# Altium integrated library Maxim Digital Potentiometers.IntLib: 1045 symbols (part 19 of 42)
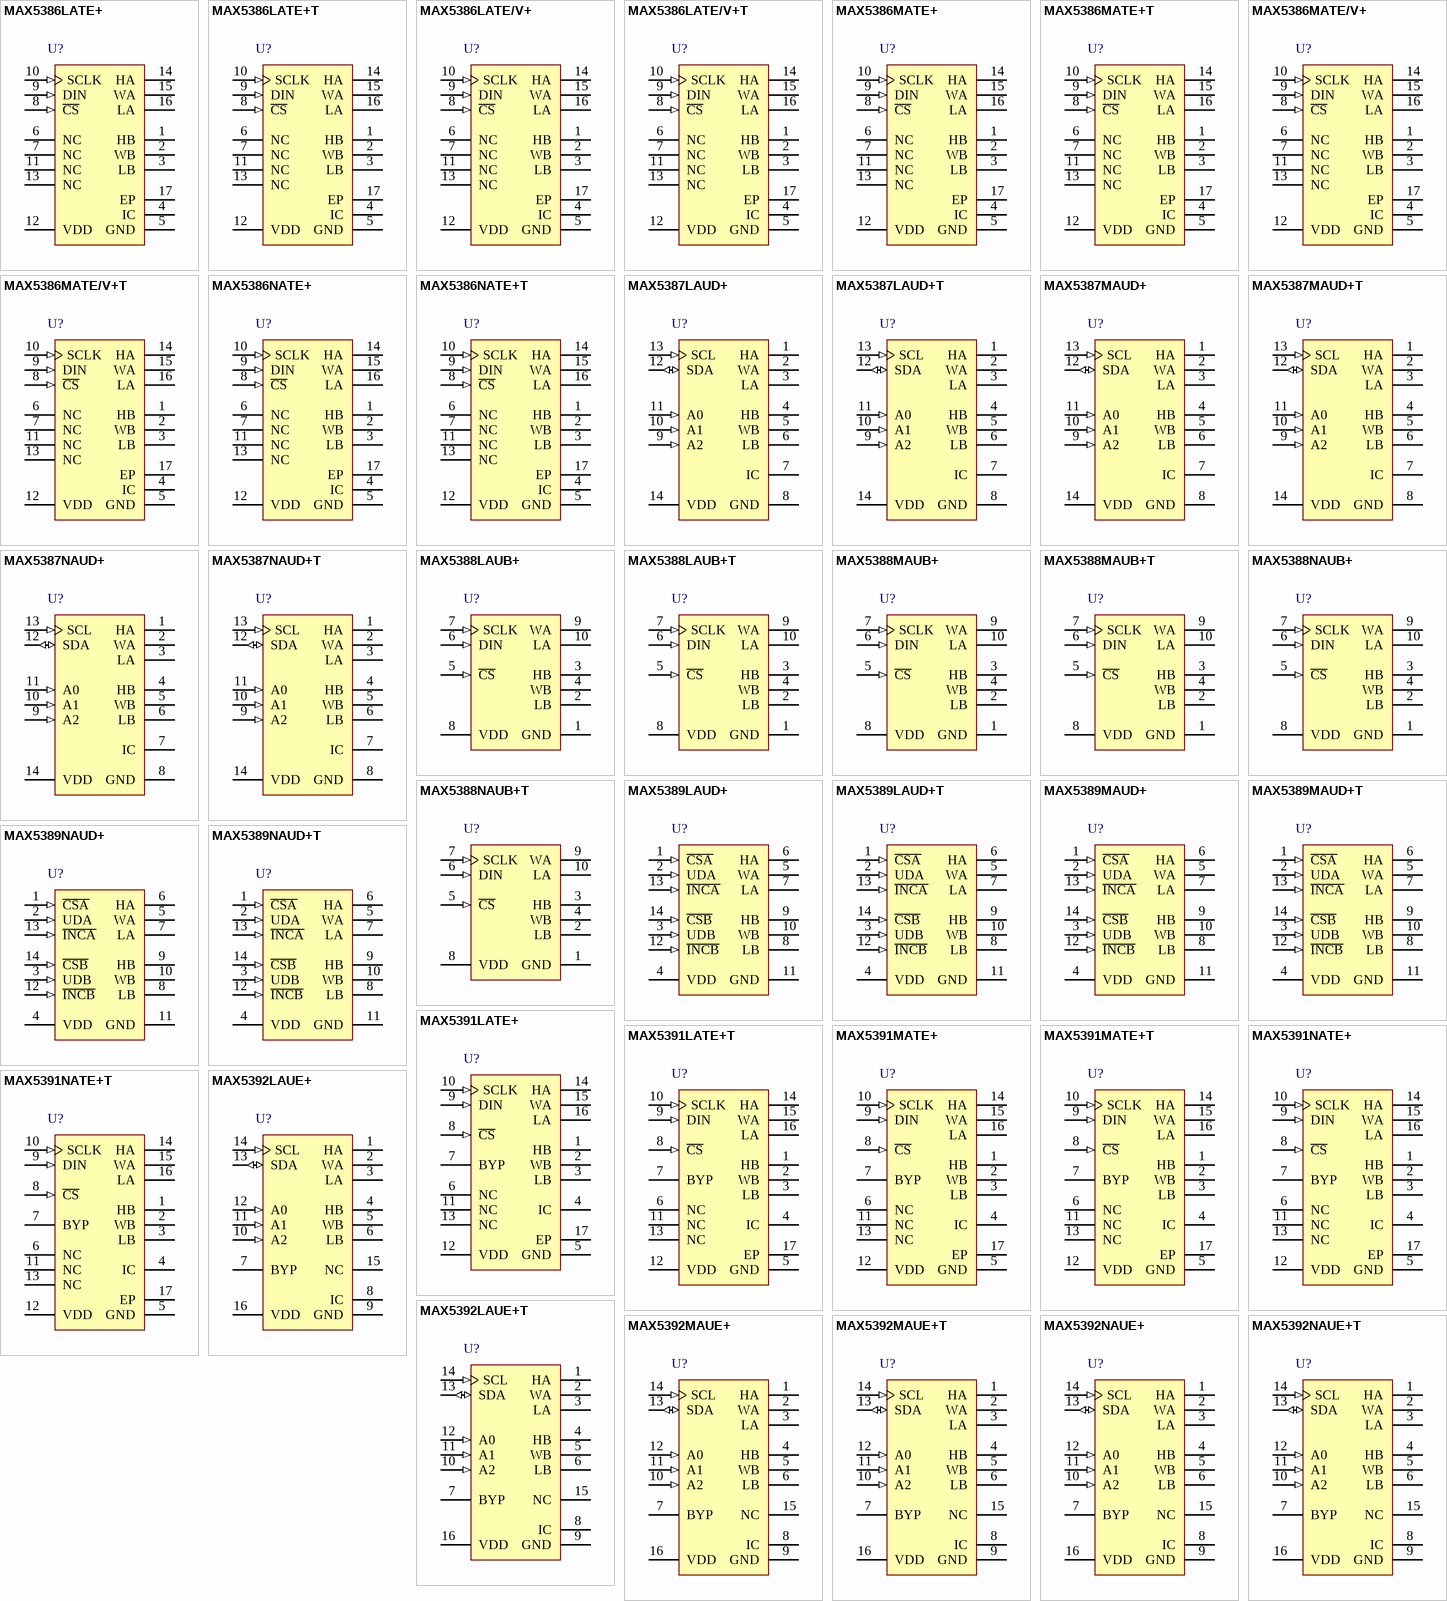
[diagram p47: symbols MAX5386LATE+ to MAX5392NAUE+T]

## MAX5386NATE+
designator U?
Dual Low-Voltage Digital Potentiometer with 3-Wire Serial SPI Control Interface, Volatile, Linear Taper, 256 Steps, -40 to 125 degC, 16-pin TQFN (T1633+5), Pb-Free; PartNumber: MAX5386NATE+; Industry Qualified: Automotive - AECQ100, Automotive - General; DatasheetVersion: Rev. 2; PackageVersion: Rev. L, 04/2012; PackageReference: T1633+5; PackageDescription: 16-Pin Thin Quad Flatpack, No Leads (T1633+5), Body 3 x 3 mm, Pitch 0.5 mm; Supplier 1: Digi-Key; Supplier Part Number 1: MAX5386NATE+-ND; Supplier 2: Mouser; Supplier Part Number 2: 700-MAX5386NATE; Applications: Low-Voltage Battery Applications, Portable Consumer; Control Interface: 3-Wire Serial SPI; Features: Ultra Low Power Consumption; Mounting Technology: Surface Mount; Code_JEDEC: MO220; ComponentLink1Description: Manufacturer URL; ComponentLink1URL: http://www.maximintegrated.com/; ComponentLink2Description: Datasheet; ComponentLink2URL: http://datasheets.maximintegrated.com/en/ds/MAX5386-MAX5388.pdf; ComponentLink3Description: Package Specification; ComponentLink3URL: http://pdfserv.maximintegrated.com/package_dwgs/21-0136.PDF
footprint MAXM-T1633+5_N (QFN, 16-Leads, Body 3x3mm, Pitch 0.5mm, Thermal Pad 1.1x1.1mm, IPC Medium Density)
footprint MAXM-T1633+5_L (QFN, 16-Leads, Body 3x3mm, Pitch 0.5mm, Thermal Pad 1.1x1.1mm, IPC High Density)
footprint MAXM-T1633+5_M (QFN, 16-Leads, Body 3x3mm, Pitch 0.5mm, Thermal Pad 1.1x1.1mm, IPC Low Density)
pins: 1 HB "Resistor B High Terminal. The voltage at HB can be higher or lower than the voltage at LB. Current can flow in to or out of HB.", 2 WB "Resistor B Wiper Terminal", 3 LB "Resistor B Low Terminal. The voltage at LB can be higher or lower than the voltage at HB. Current can flow in to or out of LB.", 4 IC (power) "Internally Connected. Connect to GND.", 5 GND (power) "Ground. Both pins must be grounded.", 6 NC "No Connection. Not internally connected.", 7 NC "No Connection. Not internally connected.", 8 ~{CS} (in) "Active-Low Chip-Select Input", 9 DIN (in) "Serial-Interface Data Input", 10 SCLK (in) "Serial-Interface Clock Input", 11 NC "No Connection. Not internally connected.", 12 VDD (power) "Power-Supply Input. Bypass VDD to GND with a 0.1uF capacitor close to the device.", 13 NC "No Connection. Not internally connected.", 14 HA "Resistor A High Terminal. The voltage at HA can be higher or lower than the voltage at LA. Current can flow in to or out of HA.", 15 WA "Resistor A Wiper Terminal", 16 LA "Resistor A Low Terminal. The voltage at LA can be higher or lower than the voltage at HA. Current can flow in to or out of LA.", 17 EP (power) "Exposed Pad (TQFN Only). Internally connected to GND. Connect to ground."

## MAX5386NATE+T
designator U?
Dual Low-Voltage Digital Potentiometer with 3-Wire Serial SPI Control Interface, Volatile, Linear Taper, 256 Steps, -40 to 125 degC, 16-pin TQFN (T1633+5), Pb-Free, Tape and Reel; PartNumber: MAX5386NATE+T; Industry Qualified: Automotive - AECQ100, Automotive - General; DatasheetVersion: Rev. 2; PackageVersion: Rev. L, 04/2012; PackageReference: T1633+5; PackageDescription: 16-Pin Thin Quad Flatpack, No Leads (T1633+5), Body 3 x 3 mm, Pitch 0.5 mm; Supplier 1: Digi-Key; Supplier Part Number 1: MAX5386NATE+T-ND; Supplier 2: Mouser; Supplier Part Number 2: 700-MAX5386NATET; Applications: Low-Voltage Battery Applications, Portable Consumer; Control Interface: 3-Wire Serial SPI; Features: Ultra Low Power Consumption; Mounting Technology: Surface Mount; Code_JEDEC: MO220; ComponentLink1Description: Manufacturer URL; ComponentLink1URL: http://www.maximintegrated.com/; ComponentLink2Description: Datasheet; ComponentLink2URL: http://datasheets.maximintegrated.com/en/ds/MAX5386-MAX5388.pdf; ComponentLink3Description: Package Specification; ComponentLink3URL: http://pdfserv.maximintegrated.com/package_dwgs/21-0136.PDF
footprint MAXM-T1633+5_N (QFN, 16-Leads, Body 3x3mm, Pitch 0.5mm, Thermal Pad 1.1x1.1mm, IPC Medium Density)
footprint MAXM-T1633+5_L (QFN, 16-Leads, Body 3x3mm, Pitch 0.5mm, Thermal Pad 1.1x1.1mm, IPC High Density)
footprint MAXM-T1633+5_M (QFN, 16-Leads, Body 3x3mm, Pitch 0.5mm, Thermal Pad 1.1x1.1mm, IPC Low Density)
pins: 1 HB "Resistor B High Terminal. The voltage at HB can be higher or lower than the voltage at LB. Current can flow in to or out of HB.", 2 WB "Resistor B Wiper Terminal", 3 LB "Resistor B Low Terminal. The voltage at LB can be higher or lower than the voltage at HB. Current can flow in to or out of LB.", 4 IC (power) "Internally Connected. Connect to GND.", 5 GND (power) "Ground. Both pins must be grounded.", 6 NC "No Connection. Not internally connected.", 7 NC "No Connection. Not internally connected.", 8 ~{CS} (in) "Active-Low Chip-Select Input", 9 DIN (in) "Serial-Interface Data Input", 10 SCLK (in) "Serial-Interface Clock Input", 11 NC "No Connection. Not internally connected.", 12 VDD (power) "Power-Supply Input. Bypass VDD to GND with a 0.1uF capacitor close to the device.", 13 NC "No Connection. Not internally connected.", 14 HA "Resistor A High Terminal. The voltage at HA can be higher or lower than the voltage at LA. Current can flow in to or out of HA.", 15 WA "Resistor A Wiper Terminal", 16 LA "Resistor A Low Terminal. The voltage at LA can be higher or lower than the voltage at HA. Current can flow in to or out of LA.", 17 EP (power) "Exposed Pad (TQFN Only). Internally connected to GND. Connect to ground."

## MAX5387LAUD+
designator U?
Dual, Low-Voltage Digital Potentiometer with I2C Control Interface, Volatile, Linear Taper, 256 Steps, -40 to 125 degC, 14-pin TSSOP (U14+1), Pb-Free; PartNumber: MAX5387LAUD+; DatasheetVersion: Rev. 2; PackageVersion: Rev. L, 07/2010; PackageReference: U14+1; PackageDescription: 14-Pin Thin Shrink Small-Outline Package (U14+1), Body 5 x 4.4 mm, Pitch 0.65 mm; Supplier 1: Digi-Key; Supplier Part Number 1: MAX5387LAUD+-ND; Supplier 2: Newark; Supplier Part Number 2: 64R0232; Supplier 3: Mouser; Supplier Part Number 3: 700-MAX5387LAUD+; Applications: Low-Voltage Battery Applications, Portable Consumer; Control Interface: I2C; Mounting Technology: Surface Mount; Code_JEDEC: MO-153; ComponentLink1Description: Manufacturer URL; ComponentLink1URL: http://www.maximintegrated.com/; ComponentLink2Description: Datasheet; ComponentLink2URL: http://datasheets.maximintegrated.com/en/ds/MAX5387.pdf; ComponentLink3Description: Package Specification; ComponentLink3URL: http://pdfserv.maximintegrated.com/package_dwgs/21-0066.PDF
footprint MAXM-U14+1_N (SOP, 14-Leads, Body 5x4.4mm, Pitch 0.65mm, IPC Medium Density)
footprint MAXM-U14+1_L (SOP, 14-Leads, Body 5x4.4mm, Pitch 0.65mm, IPC High Density)
footprint MAXM-U14+1_M (SOP, 14-Leads, Body 5x4.4mm, Pitch 0.65mm, IPC Low Density)
pins: 1 HA "Resistor A High Terminal. The voltage at HA can be higher or lower than the voltage at LA. Current can flow into or out of HA", 2 WA "Resistor A Wiper Terminal", 3 LA "Resistor A Low Terminal. The voltage at LA can be higher or lower than the voltage at HA. Current can flow into or out of LA", 4 HB "Resistor B High Terminal. The voltage at HB can be higher or lower than the voltage at LB. Current can flow into or out of HB", 5 WB "Resistor B Wiper Terminal", 6 LB "Resistor B Low Terminal. The voltage at LB can be higher or lower than the voltage at HB. Current can flow into or out of LB.", 7 IC "Internally Connected. Connect to GND.", 8 GND (power) "Ground", 9 A2 (in) "Address Input 2. Connect to VDD or GND.", 10 A1 (in) "Address Input 1. Connect to VDD or GND.", 11 A0 (in) "Address Input 0. Connect to VDD or GND.", 12 SDA (io) "I2C-Compatible Serial-Data Input/Output. A pullup resistor is required.", 13 SCL (in) "I2C-Compatible Serial-Clock Input. A pullup resistor is required.", 14 VDD (power) "Power-Supply Input. Bypass VDD to GND with a 0.1uF capacitor close to the device."

## MAX5387LAUD+T
designator U?
Dual, Low-Voltage Digital Potentiometer with I2C Control Interface, Volatile, Linear Taper, 256 Steps, -40 to 125 degC, 14-pin TSSOP (U14+1), Pb-Free, Tape and Reel; PartNumber: MAX5387LAUD+T; DatasheetVersion: Rev. 2; PackageVersion: Rev. L, 07/2010; PackageReference: U14+1; PackageDescription: 14-Pin Thin Shrink Small-Outline Package (U14+1), Body 5 x 4.4 mm, Pitch 0.65 mm; Supplier 1: Digi-Key; Supplier Part Number 1: MAX5387LAUD+T-ND; Supplier 2: Mouser; Supplier Part Number 2: 700-MAX5387LAUD+T; Applications: Low-Voltage Battery Applications, Portable Consumer; Control Interface: I2C; Mounting Technology: Surface Mount; Code_JEDEC: MO-153; ComponentLink1Description: Manufacturer URL; ComponentLink1URL: http://www.maximintegrated.com/; ComponentLink2Description: Datasheet; ComponentLink2URL: http://datasheets.maximintegrated.com/en/ds/MAX5387.pdf; ComponentLink3Description: Package Specification; ComponentLink3URL: http://pdfserv.maximintegrated.com/package_dwgs/21-0066.PDF
footprint MAXM-U14+1_N (SOP, 14-Leads, Body 5x4.4mm, Pitch 0.65mm, IPC Medium Density)
footprint MAXM-U14+1_L (SOP, 14-Leads, Body 5x4.4mm, Pitch 0.65mm, IPC High Density)
footprint MAXM-U14+1_M (SOP, 14-Leads, Body 5x4.4mm, Pitch 0.65mm, IPC Low Density)
pins: 1 HA "Resistor A High Terminal. The voltage at HA can be higher or lower than the voltage at LA. Current can flow into or out of HA", 2 WA "Resistor A Wiper Terminal", 3 LA "Resistor A Low Terminal. The voltage at LA can be higher or lower than the voltage at HA. Current can flow into or out of LA", 4 HB "Resistor B High Terminal. The voltage at HB can be higher or lower than the voltage at LB. Current can flow into or out of HB", 5 WB "Resistor B Wiper Terminal", 6 LB "Resistor B Low Terminal. The voltage at LB can be higher or lower than the voltage at HB. Current can flow into or out of LB.", 7 IC "Internally Connected. Connect to GND.", 8 GND (power) "Ground", 9 A2 (in) "Address Input 2. Connect to VDD or GND.", 10 A1 (in) "Address Input 1. Connect to VDD or GND.", 11 A0 (in) "Address Input 0. Connect to VDD or GND.", 12 SDA (io) "I2C-Compatible Serial-Data Input/Output. A pullup resistor is required.", 13 SCL (in) "I2C-Compatible Serial-Clock Input. A pullup resistor is required.", 14 VDD (power) "Power-Supply Input. Bypass VDD to GND with a 0.1uF capacitor close to the device."

## MAX5387MAUD+
designator U?
Dual, Low-Voltage Digital Potentiometer with I2C Control Interface, Volatile, Linear Taper, 256 Steps, -40 to 125 degC, 14-pin TSSOP (U14+1), Pb-Free; PartNumber: MAX5387MAUD+; DatasheetVersion: Rev. 2; PackageVersion: Rev. L, 07/2010; PackageReference: U14+1; PackageDescription: 14-Pin Thin Shrink Small-Outline Package (U14+1), Body 5 x 4.4 mm, Pitch 0.65 mm; Supplier 1: Digi-Key; Supplier Part Number 1: MAX5387MAUD+-ND; Supplier 2: Farnell; Supplier Part Number 2: 1811326; Supplier 3: Newark; Supplier Part Number 3: 64R0233; Supplier 4: Mouser; Supplier Part Number 4: 700-MAX5387MAUD+; Applications: Low-Voltage Battery Applications, Portable Consumer; Control Interface: I2C; Mounting Technology: Surface Mount; Code_JEDEC: MO-153; ComponentLink1Description: Manufacturer URL; ComponentLink1URL: http://www.maximintegrated.com/; ComponentLink2Description: Datasheet; ComponentLink2URL: http://datasheets.maximintegrated.com/en/ds/MAX5387.pdf; ComponentLink3Description: Package Specification; ComponentLink3URL: http://pdfserv.maximintegrated.com/package_dwgs/21-0066.PDF
footprint MAXM-U14+1_N (SOP, 14-Leads, Body 5x4.4mm, Pitch 0.65mm, IPC Medium Density)
footprint MAXM-U14+1_L (SOP, 14-Leads, Body 5x4.4mm, Pitch 0.65mm, IPC High Density)
footprint MAXM-U14+1_M (SOP, 14-Leads, Body 5x4.4mm, Pitch 0.65mm, IPC Low Density)
pins: 1 HA "Resistor A High Terminal. The voltage at HA can be higher or lower than the voltage at LA. Current can flow into or out of HA", 2 WA "Resistor A Wiper Terminal", 3 LA "Resistor A Low Terminal. The voltage at LA can be higher or lower than the voltage at HA. Current can flow into or out of LA", 4 HB "Resistor B High Terminal. The voltage at HB can be higher or lower than the voltage at LB. Current can flow into or out of HB", 5 WB "Resistor B Wiper Terminal", 6 LB "Resistor B Low Terminal. The voltage at LB can be higher or lower than the voltage at HB. Current can flow into or out of LB.", 7 IC "Internally Connected. Connect to GND.", 8 GND (power) "Ground", 9 A2 (in) "Address Input 2. Connect to VDD or GND.", 10 A1 (in) "Address Input 1. Connect to VDD or GND.", 11 A0 (in) "Address Input 0. Connect to VDD or GND.", 12 SDA (io) "I2C-Compatible Serial-Data Input/Output. A pullup resistor is required.", 13 SCL (in) "I2C-Compatible Serial-Clock Input. A pullup resistor is required.", 14 VDD (power) "Power-Supply Input. Bypass VDD to GND with a 0.1uF capacitor close to the device."

## MAX5387MAUD+T
designator U?
Dual, Low-Voltage Digital Potentiometer with I2C Control Interface, Volatile, Linear Taper, 256 Steps, -40 to 125 degC, 14-pin TSSOP (U14+1), Pb-Free, Tape and Reel; PartNumber: MAX5387MAUD+T; DatasheetVersion: Rev. 2; PackageVersion: Rev. L, 07/2010; PackageReference: U14+1; PackageDescription: 14-Pin Thin Shrink Small-Outline Package (U14+1), Body 5 x 4.4 mm, Pitch 0.65 mm; Supplier 1: Digi-Key; Supplier Part Number 1: MAX5387MAUD+T-ND; Supplier 2: Mouser; Supplier Part Number 2: 700-MAX5387MAUD+T; Applications: Low-Voltage Battery Applications, Portable Consumer; Control Interface: I2C; Mounting Technology: Surface Mount; Code_JEDEC: MO-153; ComponentLink1Description: Manufacturer URL; ComponentLink1URL: http://www.maximintegrated.com/; ComponentLink2Description: Datasheet; ComponentLink2URL: http://datasheets.maximintegrated.com/en/ds/MAX5387.pdf; ComponentLink3Description: Package Specification; ComponentLink3URL: http://pdfserv.maximintegrated.com/package_dwgs/21-0066.PDF
footprint MAXM-U14+1_N (SOP, 14-Leads, Body 5x4.4mm, Pitch 0.65mm, IPC Medium Density)
footprint MAXM-U14+1_L (SOP, 14-Leads, Body 5x4.4mm, Pitch 0.65mm, IPC High Density)
footprint MAXM-U14+1_M (SOP, 14-Leads, Body 5x4.4mm, Pitch 0.65mm, IPC Low Density)
pins: 1 HA "Resistor A High Terminal. The voltage at HA can be higher or lower than the voltage at LA. Current can flow into or out of HA", 2 WA "Resistor A Wiper Terminal", 3 LA "Resistor A Low Terminal. The voltage at LA can be higher or lower than the voltage at HA. Current can flow into or out of LA", 4 HB "Resistor B High Terminal. The voltage at HB can be higher or lower than the voltage at LB. Current can flow into or out of HB", 5 WB "Resistor B Wiper Terminal", 6 LB "Resistor B Low Terminal. The voltage at LB can be higher or lower than the voltage at HB. Current can flow into or out of LB.", 7 IC "Internally Connected. Connect to GND.", 8 GND (power) "Ground", 9 A2 (in) "Address Input 2. Connect to VDD or GND.", 10 A1 (in) "Address Input 1. Connect to VDD or GND.", 11 A0 (in) "Address Input 0. Connect to VDD or GND.", 12 SDA (io) "I2C-Compatible Serial-Data Input/Output. A pullup resistor is required.", 13 SCL (in) "I2C-Compatible Serial-Clock Input. A pullup resistor is required.", 14 VDD (power) "Power-Supply Input. Bypass VDD to GND with a 0.1uF capacitor close to the device."

## MAX5387NAUD+
designator U?
Dual, Low-Voltage Digital Potentiometer with I2C Control Interface, Volatile, Linear Taper, 256 Steps, -40 to 125 degC, 14-pin TSSOP (U14+1), Pb-Free; PartNumber: MAX5387NAUD+; DatasheetVersion: Rev. 2; PackageVersion: Rev. L, 07/2010; PackageReference: U14+1; PackageDescription: 14-Pin Thin Shrink Small-Outline Package (U14+1), Body 5 x 4.4 mm, Pitch 0.65 mm; Supplier 1: Digi-Key; Supplier Part Number 1: MAX5387NAUD+-ND; Supplier 2: Newark; Supplier Part Number 2: 64R0234; Supplier 3: Mouser; Supplier Part Number 3: 700-MAX5387NAUD+; Applications: Low-Voltage Battery Applications, Portable Consumer; Control Interface: I2C; Mounting Technology: Surface Mount; Code_JEDEC: MO-153; ComponentLink1Description: Manufacturer URL; ComponentLink1URL: http://www.maximintegrated.com/; ComponentLink2Description: Datasheet; ComponentLink2URL: http://datasheets.maximintegrated.com/en/ds/MAX5387.pdf; ComponentLink3Description: Package Specification; ComponentLink3URL: http://pdfserv.maximintegrated.com/package_dwgs/21-0066.PDF
footprint MAXM-U14+1_N (SOP, 14-Leads, Body 5x4.4mm, Pitch 0.65mm, IPC Medium Density)
footprint MAXM-U14+1_L (SOP, 14-Leads, Body 5x4.4mm, Pitch 0.65mm, IPC High Density)
footprint MAXM-U14+1_M (SOP, 14-Leads, Body 5x4.4mm, Pitch 0.65mm, IPC Low Density)
pins: 1 HA "Resistor A High Terminal. The voltage at HA can be higher or lower than the voltage at LA. Current can flow into or out of HA", 2 WA "Resistor A Wiper Terminal", 3 LA "Resistor A Low Terminal. The voltage at LA can be higher or lower than the voltage at HA. Current can flow into or out of LA", 4 HB "Resistor B High Terminal. The voltage at HB can be higher or lower than the voltage at LB. Current can flow into or out of HB", 5 WB "Resistor B Wiper Terminal", 6 LB "Resistor B Low Terminal. The voltage at LB can be higher or lower than the voltage at HB. Current can flow into or out of LB.", 7 IC "Internally Connected. Connect to GND.", 8 GND (power) "Ground", 9 A2 (in) "Address Input 2. Connect to VDD or GND.", 10 A1 (in) "Address Input 1. Connect to VDD or GND.", 11 A0 (in) "Address Input 0. Connect to VDD or GND.", 12 SDA (io) "I2C-Compatible Serial-Data Input/Output. A pullup resistor is required.", 13 SCL (in) "I2C-Compatible Serial-Clock Input. A pullup resistor is required.", 14 VDD (power) "Power-Supply Input. Bypass VDD to GND with a 0.1uF capacitor close to the device."

## MAX5387NAUD+T
designator U?
Dual, Low-Voltage Digital Potentiometer with I2C Control Interface, Volatile, Linear Taper, 256 Steps, -40 to 125 degC, 14-pin TSSOP (U14+1), Pb-Free, Tape and Reel; PartNumber: MAX5387NAUD+T; DatasheetVersion: Rev. 2; PackageVersion: Rev. L, 07/2010; PackageReference: U14+1; PackageDescription: 14-Pin Thin Shrink Small-Outline Package (U14+1), Body 5 x 4.4 mm, Pitch 0.65 mm; Supplier 1: Digi-Key; Supplier Part Number 1: MAX5387NAUD+T-ND; Supplier 2: Mouser; Supplier Part Number 2: 700-MAX5387NAUD+T; Applications: Low-Voltage Battery Applications, Portable Consumer; Control Interface: I2C; Mounting Technology: Surface Mount; Code_JEDEC: MO-153; ComponentLink1Description: Manufacturer URL; ComponentLink1URL: http://www.maximintegrated.com/; ComponentLink2Description: Datasheet; ComponentLink2URL: http://datasheets.maximintegrated.com/en/ds/MAX5387.pdf; ComponentLink3Description: Package Specification; ComponentLink3URL: http://pdfserv.maximintegrated.com/package_dwgs/21-0066.PDF
footprint MAXM-U14+1_N (SOP, 14-Leads, Body 5x4.4mm, Pitch 0.65mm, IPC Medium Density)
footprint MAXM-U14+1_L (SOP, 14-Leads, Body 5x4.4mm, Pitch 0.65mm, IPC High Density)
footprint MAXM-U14+1_M (SOP, 14-Leads, Body 5x4.4mm, Pitch 0.65mm, IPC Low Density)
pins: 1 HA "Resistor A High Terminal. The voltage at HA can be higher or lower than the voltage at LA. Current can flow into or out of HA", 2 WA "Resistor A Wiper Terminal", 3 LA "Resistor A Low Terminal. The voltage at LA can be higher or lower than the voltage at HA. Current can flow into or out of LA", 4 HB "Resistor B High Terminal. The voltage at HB can be higher or lower than the voltage at LB. Current can flow into or out of HB", 5 WB "Resistor B Wiper Terminal", 6 LB "Resistor B Low Terminal. The voltage at LB can be higher or lower than the voltage at HB. Current can flow into or out of LB.", 7 IC "Internally Connected. Connect to GND.", 8 GND (power) "Ground", 9 A2 (in) "Address Input 2. Connect to VDD or GND.", 10 A1 (in) "Address Input 1. Connect to VDD or GND.", 11 A0 (in) "Address Input 0. Connect to VDD or GND.", 12 SDA (io) "I2C-Compatible Serial-Data Input/Output. A pullup resistor is required.", 13 SCL (in) "I2C-Compatible Serial-Clock Input. A pullup resistor is required.", 14 VDD (power) "Power-Supply Input. Bypass VDD to GND with a 0.1uF capacitor close to the device."

## MAX5388LAUB+
designator U?
Dual, Low-Voltage Linear Taper Digital Potentiometer with 3-Wire Serial SPI Control Interface, Volatile, Linear Taper, 256 Steps, -40 to 125 degC, 10-pin uMAX (U10+2), Pb-Free; PartNumber: MAX5388LAUB+; DatasheetVersion: Rev. 2; PackageVersion: Rev. L, 07/2008; PackageReference: U10+2; PackageDescription: 10-Pin Micro-MAX, Thin Shrink Small-Outline (U10+2), Body 3 x 3 mm, Pitch 0.5 mm; Supplier 1: Digi-Key; Supplier Part Number 1: MAX5388LAUB+-ND; Supplier 2: Mouser; Supplier Part Number 2: 700-MAX5388LAUB+; Applications: Low-Voltage Battery Applications, Portable Consumer; Control Interface: 3-Wire Serial SPI; Mounting Technology: Surface Mount; Code_JEDEC: MO-187; ComponentLink1Description: Manufacturer URL; ComponentLink1URL: http://www.maximintegrated.com/; ComponentLink2Description: Datasheet; ComponentLink2URL: http://datasheets.maximintegrated.com/en/ds/MAX5386-MAX5388.pdf; ComponentLink3Description: Package Specification; ComponentLink3URL: http://pdfserv.maximintegrated.com/package_dwgs/21-0061.PDF
footprint MAXM-U10+2_N (SOP, 10-Leads, Body 3x3mm, Pitch 0.5mm, IPC Medium Density)
footprint MAXM-U10+2_L (SOP, 10-Leads, Body 3x3mm, Pitch 0.5mm, IPC High Density)
footprint MAXM-U10+2_M (SOP, 10-Leads, Body 3x3mm, Pitch 0.5mm, IPC Low Density)
pins: 1 GND (power) "Ground. Both pins must be grounded.", 2 LB "Resistor B Low Terminal. The voltage at LB can be higher or lower than the voltage at HB. Current can flow in to or out of LB.", 3 HB "Resistor B High Terminal. The voltage at HB can be higher or lower than the voltage at LB. Current can flow in to or out of HB.", 4 WB "Resistor B Wiper Terminal", 5 ~{CS} (in) "Active-Low Chip-Select Input", 6 DIN (in) "Serial-Interface Data Input", 7 SCLK (in) "Serial-Interface Clock Input", 8 VDD (power) "Power-Supply Input. Bypass VDD to GND with a 0.1uF capacitor close to the device.", 9 WA "Resistor A Wiper Terminal", 10 LA "Resistor A Low Terminal. The voltage at LA can be higher or lower than the voltage at HA. Current can flow in to or out of LA."

## MAX5388LAUB+T
designator U?
Dual, Low-Voltage Linear Taper Digital Potentiometer with 3-Wire Serial SPI Control Interface, Volatile, Linear Taper, 256 Steps, -40 to 125 degC, 10-pin uMAX (U10+2), Pb-Free, Tape and Reel; PartNumber: MAX5388LAUB+T; DatasheetVersion: Rev. 2; PackageVersion: Rev. L, 07/2008; PackageReference: U10+2; PackageDescription: 10-Pin Micro-MAX, Thin Shrink Small-Outline (U10+2), Body 3 x 3 mm, Pitch 0.5 mm; Supplier 1: Digi-Key; Supplier Part Number 1: MAX5388LAUB+T-ND; Supplier 2: Mouser; Supplier Part Number 2: 700-MAX5388LAUB+T; Applications: Low-Voltage Battery Applications, Portable Consumer; Control Interface: 3-Wire Serial SPI; Mounting Technology: Surface Mount; Code_JEDEC: MO-187; ComponentLink1Description: Manufacturer URL; ComponentLink1URL: http://www.maximintegrated.com/; ComponentLink2Description: Datasheet; ComponentLink2URL: http://datasheets.maximintegrated.com/en/ds/MAX5386-MAX5388.pdf; ComponentLink3Description: Package Specification; ComponentLink3URL: http://pdfserv.maximintegrated.com/package_dwgs/21-0061.PDF
footprint MAXM-U10+2_N (SOP, 10-Leads, Body 3x3mm, Pitch 0.5mm, IPC Medium Density)
footprint MAXM-U10+2_L (SOP, 10-Leads, Body 3x3mm, Pitch 0.5mm, IPC High Density)
footprint MAXM-U10+2_M (SOP, 10-Leads, Body 3x3mm, Pitch 0.5mm, IPC Low Density)
pins: 1 GND (power) "Ground. Both pins must be grounded.", 2 LB "Resistor B Low Terminal. The voltage at LB can be higher or lower than the voltage at HB. Current can flow in to or out of LB.", 3 HB "Resistor B High Terminal. The voltage at HB can be higher or lower than the voltage at LB. Current can flow in to or out of HB.", 4 WB "Resistor B Wiper Terminal", 5 ~{CS} (in) "Active-Low Chip-Select Input", 6 DIN (in) "Serial-Interface Data Input", 7 SCLK (in) "Serial-Interface Clock Input", 8 VDD (power) "Power-Supply Input. Bypass VDD to GND with a 0.1uF capacitor close to the device.", 9 WA "Resistor A Wiper Terminal", 10 LA "Resistor A Low Terminal. The voltage at LA can be higher or lower than the voltage at HA. Current can flow in to or out of LA."

## MAX5388MAUB+
designator U?
Dual, Low-Voltage Linear Taper Digital Potentiometer with 3-Wire Serial SPI Control Interface, Volatile, Linear Taper, 256 Steps, -40 to 125 degC, 10-pin uMAX (U10+2), Pb-Free; PartNumber: MAX5388MAUB+; DatasheetVersion: Rev. 2; PackageVersion: Rev. L, 07/2008; PackageReference: U10+2; PackageDescription: 10-Pin Micro-MAX, Thin Shrink Small-Outline (U10+2), Body 3 x 3 mm, Pitch 0.5 mm; Supplier 1: Digi-Key; Supplier Part Number 1: MAX5388MAUB+-ND; Supplier 2: Mouser; Supplier Part Number 2: 700-MAX5388MAUB+; Applications: Low-Voltage Battery Applications, Portable Consumer; Control Interface: 3-Wire Serial SPI; Mounting Technology: Surface Mount; Code_JEDEC: MO-187; ComponentLink1Description: Manufacturer URL; ComponentLink1URL: http://www.maximintegrated.com/; ComponentLink2Description: Datasheet; ComponentLink2URL: http://datasheets.maximintegrated.com/en/ds/MAX5386-MAX5388.pdf; ComponentLink3Description: Package Specification; ComponentLink3URL: http://pdfserv.maximintegrated.com/package_dwgs/21-0061.PDF
footprint MAXM-U10+2_N (SOP, 10-Leads, Body 3x3mm, Pitch 0.5mm, IPC Medium Density)
footprint MAXM-U10+2_L (SOP, 10-Leads, Body 3x3mm, Pitch 0.5mm, IPC High Density)
footprint MAXM-U10+2_M (SOP, 10-Leads, Body 3x3mm, Pitch 0.5mm, IPC Low Density)
pins: 1 GND (power) "Ground. Both pins must be grounded.", 2 LB "Resistor B Low Terminal. The voltage at LB can be higher or lower than the voltage at HB. Current can flow in to or out of LB.", 3 HB "Resistor B High Terminal. The voltage at HB can be higher or lower than the voltage at LB. Current can flow in to or out of HB.", 4 WB "Resistor B Wiper Terminal", 5 ~{CS} (in) "Active-Low Chip-Select Input", 6 DIN (in) "Serial-Interface Data Input", 7 SCLK (in) "Serial-Interface Clock Input", 8 VDD (power) "Power-Supply Input. Bypass VDD to GND with a 0.1uF capacitor close to the device.", 9 WA "Resistor A Wiper Terminal", 10 LA "Resistor A Low Terminal. The voltage at LA can be higher or lower than the voltage at HA. Current can flow in to or out of LA."

## MAX5388MAUB+T
designator U?
Dual, Low-Voltage Linear Taper Digital Potentiometer with 3-Wire Serial SPI Control Interface, Volatile, Linear Taper, 256 Steps, -40 to 125 degC, 10-pin uMAX (U10+2), Pb-Free, Tape and Reel; PartNumber: MAX5388MAUB+T; DatasheetVersion: Rev. 2; PackageVersion: Rev. L, 07/2008; PackageReference: U10+2; PackageDescription: 10-Pin Micro-MAX, Thin Shrink Small-Outline (U10+2), Body 3 x 3 mm, Pitch 0.5 mm; Supplier 1: Digi-Key; Supplier Part Number 1: MAX5388MAUB+T-ND; Supplier 2: Mouser; Supplier Part Number 2: 700-MAX5388MAUB+T; Applications: Low-Voltage Battery Applications, Portable Consumer; Control Interface: 3-Wire Serial SPI; Mounting Technology: Surface Mount; Code_JEDEC: MO-187; ComponentLink1Description: Manufacturer URL; ComponentLink1URL: http://www.maximintegrated.com/; ComponentLink2Description: Datasheet; ComponentLink2URL: http://datasheets.maximintegrated.com/en/ds/MAX5386-MAX5388.pdf; ComponentLink3Description: Package Specification; ComponentLink3URL: http://pdfserv.maximintegrated.com/package_dwgs/21-0061.PDF
footprint MAXM-U10+2_N (SOP, 10-Leads, Body 3x3mm, Pitch 0.5mm, IPC Medium Density)
footprint MAXM-U10+2_L (SOP, 10-Leads, Body 3x3mm, Pitch 0.5mm, IPC High Density)
footprint MAXM-U10+2_M (SOP, 10-Leads, Body 3x3mm, Pitch 0.5mm, IPC Low Density)
pins: 1 GND (power) "Ground. Both pins must be grounded.", 2 LB "Resistor B Low Terminal. The voltage at LB can be higher or lower than the voltage at HB. Current can flow in to or out of LB.", 3 HB "Resistor B High Terminal. The voltage at HB can be higher or lower than the voltage at LB. Current can flow in to or out of HB.", 4 WB "Resistor B Wiper Terminal", 5 ~{CS} (in) "Active-Low Chip-Select Input", 6 DIN (in) "Serial-Interface Data Input", 7 SCLK (in) "Serial-Interface Clock Input", 8 VDD (power) "Power-Supply Input. Bypass VDD to GND with a 0.1uF capacitor close to the device.", 9 WA "Resistor A Wiper Terminal", 10 LA "Resistor A Low Terminal. The voltage at LA can be higher or lower than the voltage at HA. Current can flow in to or out of LA."

## MAX5388NAUB+
designator U?
Dual, Low-Voltage Linear Taper Digital Potentiometer with 3-Wire Serial SPI Control Interface, Volatile, Linear Taper, 256 Steps, -40 to 125 degC, 10-pin uMAX (U10+2), Pb-Free; PartNumber: MAX5388NAUB+; DatasheetVersion: Rev. 2; PackageVersion: Rev. L, 07/2008; PackageReference: U10+2; PackageDescription: 10-Pin Micro-MAX, Thin Shrink Small-Outline (U10+2), Body 3 x 3 mm, Pitch 0.5 mm; Supplier 1: Digi-Key; Supplier Part Number 1: MAX5388NAUB+-ND; Supplier 2: Farnell; Supplier Part Number 2: 1811328; Supplier 3: Mouser; Supplier Part Number 3: 700-MAX5388NAUB+; Applications: Low-Voltage Battery Applications, Portable Consumer; Control Interface: 3-Wire Serial SPI; Mounting Technology: Surface Mount; Code_JEDEC: MO-187; ComponentLink1Description: Manufacturer URL; ComponentLink1URL: http://www.maximintegrated.com/; ComponentLink2Description: Datasheet; ComponentLink2URL: http://datasheets.maximintegrated.com/en/ds/MAX5386-MAX5388.pdf; ComponentLink3Description: Package Specification; ComponentLink3URL: http://pdfserv.maximintegrated.com/package_dwgs/21-0061.PDF
footprint MAXM-U10+2_N (SOP, 10-Leads, Body 3x3mm, Pitch 0.5mm, IPC Medium Density)
footprint MAXM-U10+2_L (SOP, 10-Leads, Body 3x3mm, Pitch 0.5mm, IPC High Density)
footprint MAXM-U10+2_M (SOP, 10-Leads, Body 3x3mm, Pitch 0.5mm, IPC Low Density)
pins: 1 GND (power) "Ground. Both pins must be grounded.", 2 LB "Resistor B Low Terminal. The voltage at LB can be higher or lower than the voltage at HB. Current can flow in to or out of LB.", 3 HB "Resistor B High Terminal. The voltage at HB can be higher or lower than the voltage at LB. Current can flow in to or out of HB.", 4 WB "Resistor B Wiper Terminal", 5 ~{CS} (in) "Active-Low Chip-Select Input", 6 DIN (in) "Serial-Interface Data Input", 7 SCLK (in) "Serial-Interface Clock Input", 8 VDD (power) "Power-Supply Input. Bypass VDD to GND with a 0.1uF capacitor close to the device.", 9 WA "Resistor A Wiper Terminal", 10 LA "Resistor A Low Terminal. The voltage at LA can be higher or lower than the voltage at HA. Current can flow in to or out of LA."

## MAX5388NAUB+T
designator U?
Dual, Low-Voltage Linear Taper Digital Potentiometer with 3-Wire Serial SPI Control Interface, Volatile, Linear Taper, 256 Steps, -40 to 125 degC, 10-pin uMAX (U10+2), Pb-Free, Tape and Reel; PartNumber: MAX5388NAUB+T; DatasheetVersion: Rev. 2; PackageVersion: Rev. L, 07/2008; PackageReference: U10+2; PackageDescription: 10-Pin Micro-MAX, Thin Shrink Small-Outline (U10+2), Body 3 x 3 mm, Pitch 0.5 mm; Supplier 1: Digi-Key; Supplier Part Number 1: MAX5388NAUB+T-ND; Supplier 2: Mouser; Supplier Part Number 2: 700-MAX5388NAUB+T; Applications: Low-Voltage Battery Applications, Portable Consumer; Control Interface: 3-Wire Serial SPI; Mounting Technology: Surface Mount; Code_JEDEC: MO-187; ComponentLink1Description: Manufacturer URL; ComponentLink1URL: http://www.maximintegrated.com/; ComponentLink2Description: Datasheet; ComponentLink2URL: http://datasheets.maximintegrated.com/en/ds/MAX5386-MAX5388.pdf; ComponentLink3Description: Package Specification; ComponentLink3URL: http://pdfserv.maximintegrated.com/package_dwgs/21-0061.PDF
footprint MAXM-U10+2_N (SOP, 10-Leads, Body 3x3mm, Pitch 0.5mm, IPC Medium Density)
footprint MAXM-U10+2_L (SOP, 10-Leads, Body 3x3mm, Pitch 0.5mm, IPC High Density)
footprint MAXM-U10+2_M (SOP, 10-Leads, Body 3x3mm, Pitch 0.5mm, IPC Low Density)
pins: 1 GND (power) "Ground. Both pins must be grounded.", 2 LB "Resistor B Low Terminal. The voltage at LB can be higher or lower than the voltage at HB. Current can flow in to or out of LB.", 3 HB "Resistor B High Terminal. The voltage at HB can be higher or lower than the voltage at LB. Current can flow in to or out of HB.", 4 WB "Resistor B Wiper Terminal", 5 ~{CS} (in) "Active-Low Chip-Select Input", 6 DIN (in) "Serial-Interface Data Input", 7 SCLK (in) "Serial-Interface Clock Input", 8 VDD (power) "Power-Supply Input. Bypass VDD to GND with a 0.1uF capacitor close to the device.", 9 WA "Resistor A Wiper Terminal", 10 LA "Resistor A Low Terminal. The voltage at LA can be higher or lower than the voltage at HA. Current can flow in to or out of LA."

## MAX5389LAUD+
designator U?
Dual, Digital Potentiometer with Up/Down Control Interface, Volatile, Linear Taper, 256 Steps, -40 to 125 degC, 14-pin TSSOP (U14+1), Pb-Free; PartNumber: MAX5389LAUD+; DatasheetVersion: Rev. 2; PackageVersion: Rev. L, 07/2010; PackageReference: U14+1; PackageDescription: 14-Pin Thin Shrink Small-Outline Package (U14+1), Body 5 x 4.4 mm, Pitch 0.65 mm; Supplier 1: Digi-Key; Supplier Part Number 1: MAX5389LAUD+-ND; Supplier 2: Farnell; Supplier Part Number 2: 2127639; Supplier 3: Newark; Supplier Part Number 3: 64R0238; Supplier 4: Mouser; Supplier Part Number 4: 700-MAX5389LAUD+; Applications: Low-Voltage Battery Applications, Portable Consumer; Control Interface: Up/Down; Mounting Technology: Surface Mount; Code_JEDEC: MO-153; ComponentLink1Description: Manufacturer URL; ComponentLink1URL: http://www.maximintegrated.com/; ComponentLink2Description: Datasheet; ComponentLink2URL: http://datasheets.maximintegrated.com/en/ds/MAX5389.pdf; ComponentLink3Description: Package Specification; ComponentLink3URL: http://pdfserv.maximintegrated.com/package_dwgs/21-0066.PDF
footprint MAXM-U14+1_N (SOP, 14-Leads, Body 5x4.4mm, Pitch 0.65mm, IPC Medium Density)
footprint MAXM-U14+1_L (SOP, 14-Leads, Body 5x4.4mm, Pitch 0.65mm, IPC High Density)
footprint MAXM-U14+1_M (SOP, 14-Leads, Body 5x4.4mm, Pitch 0.65mm, IPC Low Density)
pins: 1 ~{CSA} (in) "Active-Low Register A Chip-Select Input. Drive C\S\A\ low to change wiper position WA through I\N\C\A\ and UDA.", 2 UDA (in) "Register A Up/Down Control Input. With UDA low, a high-to-low transition at I\N\C\A\ decrements the WA position towards LA. With UDA high, a high-to-low transition at I\N\C\A\ increments WA position toward HA", 3 UDB (in) "Register B Up/Down Control Input. With UDB low, a high-to-low transition at I\N\C\B\ decrements the WB position towards LB. With UDB high, a high-to-low transition at I\N\C\B\ increments WB position toward HB.", 4 VDD (power) "Power-Supply Input. Bypass VDD to GND with a 0.1uF capacitor close to the device.", 5 WA "Resistor A Wiper Terminal", 6 HA "Resistor A High Terminal. The voltage at HA can be higher or lower than the voltage at LA. Current can flow into or out of HA.", 7 LA "Resistor A Low Terminal. The voltage at LA can be higher or lower than the voltage at HA. Current can flow into or out of LA.", 8 LB "Resistor B Low Terminal. The voltage at LB can be higher or lower than the voltage at HB. Current can flow into or out of LB", 9 HB "Resistor B High Terminal. The voltage at HB can be higher or lower than the voltage at LB. Current can flow into or out of HB.", 10 WB "Resistor B Wiper Terminal", 11 GND (power) "Ground", 12 ~{INCB} (in) "Register B Wiper Increment Control Input. With UDB low, a high-to-low transition at I\N\C\B\ decrements the WB position towards LB. With UDB high, a high-to-low transition at I\N\C\B\ increments WB position toward HB.", 13 ~{INCA} (in) "Register A Wiper Increment Control Input. With UDA low, a high-to-low transition at I\N\C\A\ decrements the WA position towards LA. With UDA high, a high-to-low transition at I\N\C\A\ increments WA position toward HA.", 14 ~{CSB} (in) "Active-Low Register B Chip-Select Input. Drive C\S\B\ low to change wiper position WA through I\N\C\B\ and UDB."

## MAX5389LAUD+T
designator U?
Dual, Digital Potentiometer with Up/Down Control Interface, Volatile, Linear Taper, 256 Steps, -40 to 125 degC, 14-pin TSSOP (U14+1), Pb-Free, Tape and Reel; PartNumber: MAX5389LAUD+T; DatasheetVersion: Rev. 2; PackageVersion: Rev. L, 07/2010; PackageReference: U14+1; PackageDescription: 14-Pin Thin Shrink Small-Outline Package (U14+1), Body 5 x 4.4 mm, Pitch 0.65 mm; Supplier 1: Digi-Key; Supplier Part Number 1: MAX5389LAUD+T-ND; Supplier 2: Mouser; Supplier Part Number 2: 700-MAX5389LAUD+T; Applications: Low-Voltage Battery Applications, Portable Consumer; Control Interface: Up/Down; Mounting Technology: Surface Mount; Code_JEDEC: MO-153; ComponentLink1Description: Manufacturer URL; ComponentLink1URL: http://www.maximintegrated.com/; ComponentLink2Description: Datasheet; ComponentLink2URL: http://datasheets.maximintegrated.com/en/ds/MAX5389.pdf; ComponentLink3Description: Package Specification; ComponentLink3URL: http://pdfserv.maximintegrated.com/package_dwgs/21-0066.PDF
footprint MAXM-U14+1_N (SOP, 14-Leads, Body 5x4.4mm, Pitch 0.65mm, IPC Medium Density)
footprint MAXM-U14+1_L (SOP, 14-Leads, Body 5x4.4mm, Pitch 0.65mm, IPC High Density)
footprint MAXM-U14+1_M (SOP, 14-Leads, Body 5x4.4mm, Pitch 0.65mm, IPC Low Density)
pins: 1 ~{CSA} (in) "Active-Low Register A Chip-Select Input. Drive C\S\A\ low to change wiper position WA through I\N\C\A\ and UDA.", 2 UDA (in) "Register A Up/Down Control Input. With UDA low, a high-to-low transition at I\N\C\A\ decrements the WA position towards LA. With UDA high, a high-to-low transition at I\N\C\A\ increments WA position toward HA", 3 UDB (in) "Register B Up/Down Control Input. With UDB low, a high-to-low transition at I\N\C\B\ decrements the WB position towards LB. With UDB high, a high-to-low transition at I\N\C\B\ increments WB position toward HB.", 4 VDD (power) "Power-Supply Input. Bypass VDD to GND with a 0.1uF capacitor close to the device.", 5 WA "Resistor A Wiper Terminal", 6 HA "Resistor A High Terminal. The voltage at HA can be higher or lower than the voltage at LA. Current can flow into or out of HA.", 7 LA "Resistor A Low Terminal. The voltage at LA can be higher or lower than the voltage at HA. Current can flow into or out of LA.", 8 LB "Resistor B Low Terminal. The voltage at LB can be higher or lower than the voltage at HB. Current can flow into or out of LB", 9 HB "Resistor B High Terminal. The voltage at HB can be higher or lower than the voltage at LB. Current can flow into or out of HB.", 10 WB "Resistor B Wiper Terminal", 11 GND (power) "Ground", 12 ~{INCB} (in) "Register B Wiper Increment Control Input. With UDB low, a high-to-low transition at I\N\C\B\ decrements the WB position towards LB. With UDB high, a high-to-low transition at I\N\C\B\ increments WB position toward HB.", 13 ~{INCA} (in) "Register A Wiper Increment Control Input. With UDA low, a high-to-low transition at I\N\C\A\ decrements the WA position towards LA. With UDA high, a high-to-low transition at I\N\C\A\ increments WA position toward HA.", 14 ~{CSB} (in) "Active-Low Register B Chip-Select Input. Drive C\S\B\ low to change wiper position WA through I\N\C\B\ and UDB."

## MAX5389MAUD+
designator U?
Dual, Digital Potentiometer with Up/Down Control Interface, Volatile, Linear Taper, 256 Steps, -40 to 125 degC, 14-pin TSSOP (U14+1), Pb-Free; PartNumber: MAX5389MAUD+; DatasheetVersion: Rev. 2; PackageVersion: Rev. L, 07/2010; PackageReference: U14+1; PackageDescription: 14-Pin Thin Shrink Small-Outline Package (U14+1), Body 5 x 4.4 mm, Pitch 0.65 mm; Supplier 1: Digi-Key; Supplier Part Number 1: MAX5389MAUD+-ND; Supplier 2: Newark; Supplier Part Number 2: 64R0239; Supplier 3: Mouser; Supplier Part Number 3: 700-MAX5389MAUD+; Applications: Low-Voltage Battery Applications, Portable Consumer; Control Interface: Up/Down; Mounting Technology: Surface Mount; Code_JEDEC: MO-153; ComponentLink1Description: Manufacturer URL; ComponentLink1URL: http://www.maximintegrated.com/; ComponentLink2Description: Datasheet; ComponentLink2URL: http://datasheets.maximintegrated.com/en/ds/MAX5389.pdf; ComponentLink3Description: Package Specification; ComponentLink3URL: http://pdfserv.maximintegrated.com/package_dwgs/21-0066.PDF
footprint MAXM-U14+1_N (SOP, 14-Leads, Body 5x4.4mm, Pitch 0.65mm, IPC Medium Density)
footprint MAXM-U14+1_L (SOP, 14-Leads, Body 5x4.4mm, Pitch 0.65mm, IPC High Density)
footprint MAXM-U14+1_M (SOP, 14-Leads, Body 5x4.4mm, Pitch 0.65mm, IPC Low Density)
pins: 1 ~{CSA} (in) "Active-Low Register A Chip-Select Input. Drive C\S\A\ low to change wiper position WA through I\N\C\A\ and UDA.", 2 UDA (in) "Register A Up/Down Control Input. With UDA low, a high-to-low transition at I\N\C\A\ decrements the WA position towards LA. With UDA high, a high-to-low transition at I\N\C\A\ increments WA position toward HA", 3 UDB (in) "Register B Up/Down Control Input. With UDB low, a high-to-low transition at I\N\C\B\ decrements the WB position towards LB. With UDB high, a high-to-low transition at I\N\C\B\ increments WB position toward HB.", 4 VDD (power) "Power-Supply Input. Bypass VDD to GND with a 0.1uF capacitor close to the device.", 5 WA "Resistor A Wiper Terminal", 6 HA "Resistor A High Terminal. The voltage at HA can be higher or lower than the voltage at LA. Current can flow into or out of HA.", 7 LA "Resistor A Low Terminal. The voltage at LA can be higher or lower than the voltage at HA. Current can flow into or out of LA.", 8 LB "Resistor B Low Terminal. The voltage at LB can be higher or lower than the voltage at HB. Current can flow into or out of LB", 9 HB "Resistor B High Terminal. The voltage at HB can be higher or lower than the voltage at LB. Current can flow into or out of HB.", 10 WB "Resistor B Wiper Terminal", 11 GND (power) "Ground", 12 ~{INCB} (in) "Register B Wiper Increment Control Input. With UDB low, a high-to-low transition at I\N\C\B\ decrements the WB position towards LB. With UDB high, a high-to-low transition at I\N\C\B\ increments WB position toward HB.", 13 ~{INCA} (in) "Register A Wiper Increment Control Input. With UDA low, a high-to-low transition at I\N\C\A\ decrements the WA position towards LA. With UDA high, a high-to-low transition at I\N\C\A\ increments WA position toward HA.", 14 ~{CSB} (in) "Active-Low Register B Chip-Select Input. Drive C\S\B\ low to change wiper position WA through I\N\C\B\ and UDB."

## MAX5389MAUD+T
designator U?
Dual, Digital Potentiometer with Up/Down Control Interface, Volatile, Linear Taper, 256 Steps, -40 to 125 degC, 14-pin TSSOP (U14+1), Pb-Free, Tape and Reel; PartNumber: MAX5389MAUD+T; DatasheetVersion: Rev. 2; PackageVersion: Rev. L, 07/2010; PackageReference: U14+1; PackageDescription: 14-Pin Thin Shrink Small-Outline Package (U14+1), Body 5 x 4.4 mm, Pitch 0.65 mm; Supplier 1: Digi-Key; Supplier Part Number 1: MAX5389MAUD+T-ND; Supplier 2: Mouser; Supplier Part Number 2: 700-MAX5389MAUD+T; Applications: Low-Voltage Battery Applications, Portable Consumer; Control Interface: Up/Down; Mounting Technology: Surface Mount; Code_JEDEC: MO-153; ComponentLink1Description: Manufacturer URL; ComponentLink1URL: http://www.maximintegrated.com/; ComponentLink2Description: Datasheet; ComponentLink2URL: http://datasheets.maximintegrated.com/en/ds/MAX5389.pdf; ComponentLink3Description: Package Specification; ComponentLink3URL: http://pdfserv.maximintegrated.com/package_dwgs/21-0066.PDF
footprint MAXM-U14+1_N (SOP, 14-Leads, Body 5x4.4mm, Pitch 0.65mm, IPC Medium Density)
footprint MAXM-U14+1_L (SOP, 14-Leads, Body 5x4.4mm, Pitch 0.65mm, IPC High Density)
footprint MAXM-U14+1_M (SOP, 14-Leads, Body 5x4.4mm, Pitch 0.65mm, IPC Low Density)
pins: 1 ~{CSA} (in) "Active-Low Register A Chip-Select Input. Drive C\S\A\ low to change wiper position WA through I\N\C\A\ and UDA.", 2 UDA (in) "Register A Up/Down Control Input. With UDA low, a high-to-low transition at I\N\C\A\ decrements the WA position towards LA. With UDA high, a high-to-low transition at I\N\C\A\ increments WA position toward HA", 3 UDB (in) "Register B Up/Down Control Input. With UDB low, a high-to-low transition at I\N\C\B\ decrements the WB position towards LB. With UDB high, a high-to-low transition at I\N\C\B\ increments WB position toward HB.", 4 VDD (power) "Power-Supply Input. Bypass VDD to GND with a 0.1uF capacitor close to the device.", 5 WA "Resistor A Wiper Terminal", 6 HA "Resistor A High Terminal. The voltage at HA can be higher or lower than the voltage at LA. Current can flow into or out of HA.", 7 LA "Resistor A Low Terminal. The voltage at LA can be higher or lower than the voltage at HA. Current can flow into or out of LA.", 8 LB "Resistor B Low Terminal. The voltage at LB can be higher or lower than the voltage at HB. Current can flow into or out of LB", 9 HB "Resistor B High Terminal. The voltage at HB can be higher or lower than the voltage at LB. Current can flow into or out of HB.", 10 WB "Resistor B Wiper Terminal", 11 GND (power) "Ground", 12 ~{INCB} (in) "Register B Wiper Increment Control Input. With UDB low, a high-to-low transition at I\N\C\B\ decrements the WB position towards LB. With UDB high, a high-to-low transition at I\N\C\B\ increments WB position toward HB.", 13 ~{INCA} (in) "Register A Wiper Increment Control Input. With UDA low, a high-to-low transition at I\N\C\A\ decrements the WA position towards LA. With UDA high, a high-to-low transition at I\N\C\A\ increments WA position toward HA.", 14 ~{CSB} (in) "Active-Low Register B Chip-Select Input. Drive C\S\B\ low to change wiper position WA through I\N\C\B\ and UDB."

## MAX5389NAUD+
designator U?
Dual, Digital Potentiometer with Up/Down Control Interface, Volatile, Linear Taper, 256 Steps, -40 to 125 degC, 14-pin TSSOP (U14+1), Pb-Free; PartNumber: MAX5389NAUD+; DatasheetVersion: Rev. 2; PackageVersion: Rev. L, 07/2010; PackageReference: U14+1; PackageDescription: 14-Pin Thin Shrink Small-Outline Package (U14+1), Body 5 x 4.4 mm, Pitch 0.65 mm; Supplier 1: Digi-Key; Supplier Part Number 1: MAX5389NAUD+-ND; Supplier 2: Newark; Supplier Part Number 2: 64R0240; Supplier 3: Mouser; Supplier Part Number 3: 700-MAX5389NAUD+; Applications: Low-Voltage Battery Applications, Portable Consumer; Control Interface: Up/Down; Mounting Technology: Surface Mount; Code_JEDEC: MO-153; ComponentLink1Description: Manufacturer URL; ComponentLink1URL: http://www.maximintegrated.com/; ComponentLink2Description: Datasheet; ComponentLink2URL: http://datasheets.maximintegrated.com/en/ds/MAX5389.pdf; ComponentLink3Description: Package Specification; ComponentLink3URL: http://pdfserv.maximintegrated.com/package_dwgs/21-0066.PDF
footprint MAXM-U14+1_N (SOP, 14-Leads, Body 5x4.4mm, Pitch 0.65mm, IPC Medium Density)
footprint MAXM-U14+1_L (SOP, 14-Leads, Body 5x4.4mm, Pitch 0.65mm, IPC High Density)
footprint MAXM-U14+1_M (SOP, 14-Leads, Body 5x4.4mm, Pitch 0.65mm, IPC Low Density)
pins: 1 ~{CSA} (in) "Active-Low Register A Chip-Select Input. Drive C\S\A\ low to change wiper position WA through I\N\C\A\ and UDA.", 2 UDA (in) "Register A Up/Down Control Input. With UDA low, a high-to-low transition at I\N\C\A\ decrements the WA position towards LA. With UDA high, a high-to-low transition at I\N\C\A\ increments WA position toward HA", 3 UDB (in) "Register B Up/Down Control Input. With UDB low, a high-to-low transition at I\N\C\B\ decrements the WB position towards LB. With UDB high, a high-to-low transition at I\N\C\B\ increments WB position toward HB.", 4 VDD (power) "Power-Supply Input. Bypass VDD to GND with a 0.1uF capacitor close to the device.", 5 WA "Resistor A Wiper Terminal", 6 HA "Resistor A High Terminal. The voltage at HA can be higher or lower than the voltage at LA. Current can flow into or out of HA.", 7 LA "Resistor A Low Terminal. The voltage at LA can be higher or lower than the voltage at HA. Current can flow into or out of LA.", 8 LB "Resistor B Low Terminal. The voltage at LB can be higher or lower than the voltage at HB. Current can flow into or out of LB", 9 HB "Resistor B High Terminal. The voltage at HB can be higher or lower than the voltage at LB. Current can flow into or out of HB.", 10 WB "Resistor B Wiper Terminal", 11 GND (power) "Ground", 12 ~{INCB} (in) "Register B Wiper Increment Control Input. With UDB low, a high-to-low transition at I\N\C\B\ decrements the WB position towards LB. With UDB high, a high-to-low transition at I\N\C\B\ increments WB position toward HB.", 13 ~{INCA} (in) "Register A Wiper Increment Control Input. With UDA low, a high-to-low transition at I\N\C\A\ decrements the WA position towards LA. With UDA high, a high-to-low transition at I\N\C\A\ increments WA position toward HA.", 14 ~{CSB} (in) "Active-Low Register B Chip-Select Input. Drive C\S\B\ low to change wiper position WA through I\N\C\B\ and UDB."